# EAGLE library part RN-42_RN-42 (library m3pi)
RN-42 Bluetooth (www.rovingnetworks.com) mbed team ver1.0 05/10/2010
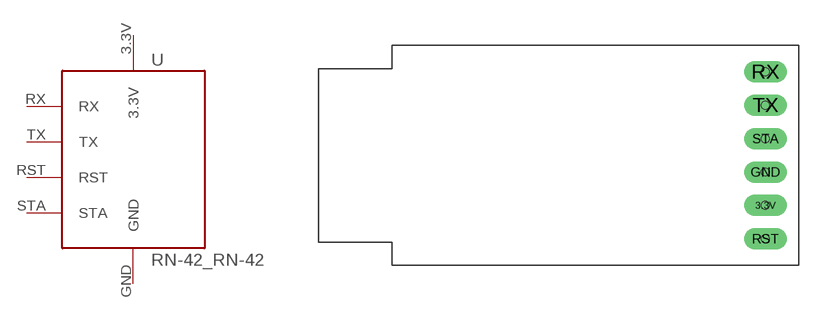
[diagram p1: symbol with the pads of RN-42_RN-42; footprint RN-42_RN-42]

Designator prefix -

## RN-42_RN-42  [RN-42_RN-42]
3.3V  3.3V  pwr
GND  GND
RST  RST
RX  RX
STA  STA
TX  TX

## Footprint RN-42_RN-42 (pad centres in mm)
drill 1.1 long: 3.3V 16.764,-3.81; GND 16.764,-1.27; RST 16.764,-6.35; RX 16.764,6.35; STA 16.764,1.27; TX 16.764,3.81
hole 0.6 at 16.764,6.35
hole 0.6 at 16.764,3.81
hole 0.6 at 16.764,1.27
hole 0.6 at 16.764,-1.27
hole 0.6 at 16.764,-3.81
hole 0.6 at 16.764,-6.35